# EAGLE library part 677006144521 (library EAGLE-INPUT_OUTPUT_CONNECTORS-rev17c)
WR-COM Horizontal Receptacle IEEE 1394 / Fire Wire, 6 pins=>Code : Con_I-O_COM_IEEE_677006144521 <http://katalog.we-online.de/media/images/eican/Con_I-O_COM_IEEE_677006144521_pf2.jpg> Details see: http://katalog.we-online.de/en/em/IEEE_1394_HORIZONTAL_RECEPTACLE/677006144521 Created 2014-07-09, Karrer Zheng 2014 (C) Würth Elektronik
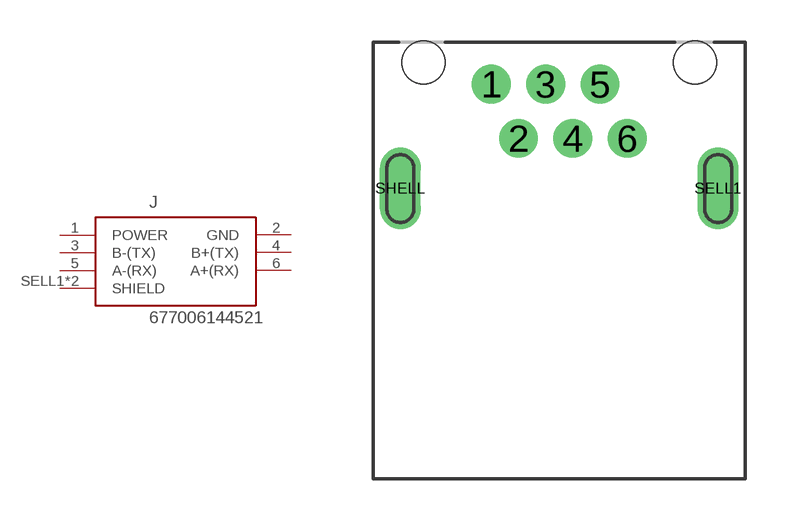
[diagram p72: symbol with the pads of 677006144521; footprint 677006144521]

Designator prefix J

## 677006144521  [677006144521]
1  POWER  pas
2  GND  pas
3  B-(TX)  pas
4  B+(TX)  pas
5  A-(RX)  pas
6  A+(RX)  pas
SELL1  SHIELD  pas
SHELL  SHIELD  pas

## Footprint 677006144521 (pad centres in mm)
WR-COM Horizontal Receptacle IEEE 1394 / Fire Wire, 6 pins
drill 0.92: 1 -2.5,1; 2 -1.5,-1; 3 -0.5,1; 4 0.5,-1; 5 1.5,1; 6 2.5,-1
drill 1 long: SELL1 5.85,-2.85; SHELL -5.85,-2.85
hole 1.6 at -5,1.8
hole 1.6 at 5,1.8